# Altium footprint library Driver.PcbLib: 18 footprints (part 2 of 2)
Each footprint in its own frame and in the unit in brackets; x right, y up, seen from the top. Pads: shape width x height; smd on the part's side, far side on the other; paste and mask are expansions set on the pad; w line width, h text height; cw(c..) or ccw(c..) is an arc to the next point about the centre after c.
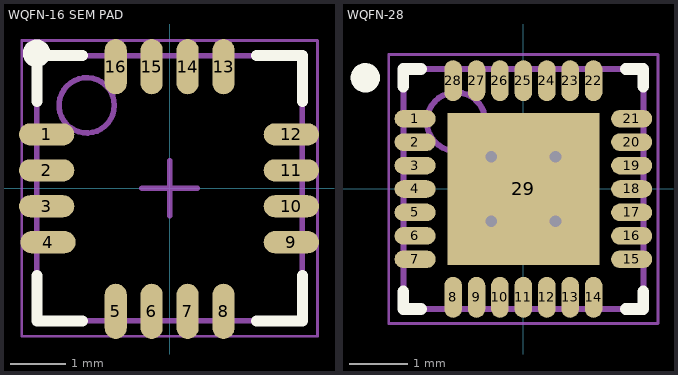
[diagram p1: the footprints below, top view; thin cyan lines are the x and y axes]

## WQFN-16 SEM PAD [mm] "WQFN-16 (16_Pins)"
pads (16):
  oval 1x0.4 smd: 1(-2.225,0.975) 2(-2.225,0.325) 3(-2.225,-0.325) 4(-2.2,-0.975) 9(2.202,-0.975) 10(2.202,-0.325) 11(2.202,0.325) 12(2.202,0.975)
  oval 0.4x1 smd: 5(-0.975,-2.225) 6(-0.325,-2.225) 7(0.325,-2.225) 8(0.975,-2.225) 13(0.975,2.2) 14(0.325,2.2) 15(-0.325,2.2) 16(-0.975,2.2)
Top Overlay:
  circle w0.25: c-2.407,2.441 r0.125
  lines w0.2: -2.4,-1.575 -2.4,-2.4 -1.575,-2.4 ; -2.4,1.575 -2.4,2.4 -1.575,2.4 ; 1.575,-2.4 2.4,-2.4 2.4,-1.575 ; 1.575,2.4 2.4,2.4 2.4,1.575
Mechanical 13:
  circle w0.1: c-1.5,1.5 r0.5
  lines w0.1: -2.4,-2.4 -2.4,2.4 2.4,2.4 2.4,-2.4 -2.4,-2.4
Mechanical 15:
  lines w0.05: -2.675,-2.675 -2.675,2.675 2.675,2.675 2.675,-2.675 -2.675,-2.675
  lines w0.1: -0.5,0 0.5,0 ; 0,-0.5 0,0.5
3D body "PQFN65P480X480X80-16N.step": height 0.8, standoff 0, extent -2.4,-2.4 2.4,2.4

## WQFN-28 [mm] "PQFN, 28-Leads, Body 4,00x4,00mm, Pitch 0,40mm, Thermal Pad 2,60x2,60mm, IPC Medium Density"
height 0.8
pads (29):
  oval 0.7x0.3 smd: 1(-1.85,1.2) 2(-1.85,0.8) 3(-1.85,0.4) 4(-1.85,0) 5(-1.85,-0.4) 6(-1.85,-0.8) 7(-1.85,-1.2) 15(1.85,-1.2) 16(1.85,-0.8) 17(1.85,-0.4) 18(1.85,0) 19(1.85,0.4) 20(1.85,0.8) 21(1.85,1.2)
  oval 0.3x0.7 smd: 8(-1.2,-1.85) 9(-0.8,-1.85) 10(-0.4,-1.85) 11(0,-1.85) 12(0.4,-1.85) 13(0.8,-1.85) 14(1.2,-1.85) 22(1.2,1.85) 23(0.8,1.85) 24(0.4,1.85) 25(0,1.85) 26(-0.4,1.85) 27(-0.8,1.85) 28(-1.2,1.85)
  rect 2.6x2.6 smd: 29(0,0)
via -0.55,0.55 diameter 0.5 hole 0.2
via 0.55,0.55 diameter 0.5 hole 0.2
via -0.55,-0.55 diameter 0.5 hole 0.2
via 0.55,-0.55 diameter 0.5 hole 0.2
Top Overlay:
  circle w0.25: c-2.7,1.9 r0.125
  lines w0.2: -2.05,-1.75 -2.05,-2.05 -1.75,-2.05 ; -2.05,1.75 -2.05,2.05 -1.75,2.05 ; 1.75,-2.05 2.05,-2.05 2.05,-1.75 ; 1.75,2.05 2.05,2.05 2.05,1.75
Mechanical 13:
  circle w0.1: c-1.15,1.15 r0.5
  lines w0.1: -2.05,-2.05 -2.05,2.05 2.05,2.05 2.05,-2.05 -2.05,-2.05
Mechanical 15:
  lines w0.05: -2.3,-2.3 -2.3,2.3 2.3,2.3 2.3,-2.3 -2.3,-2.3
  lines w0.1: -0.5,0 0.5,0 ; 0,-0.5 0,0.5
3D body "PQFN40P400X400X80_HS-29N.step": height 0.8, standoff 0, extent -2.05,-2.05 2.05,2.05